# Altium schematic symbol library BaseGOST.SchLib: 25 symbols
Pins are listed as number, name and electrical type; pins without a type are passive.

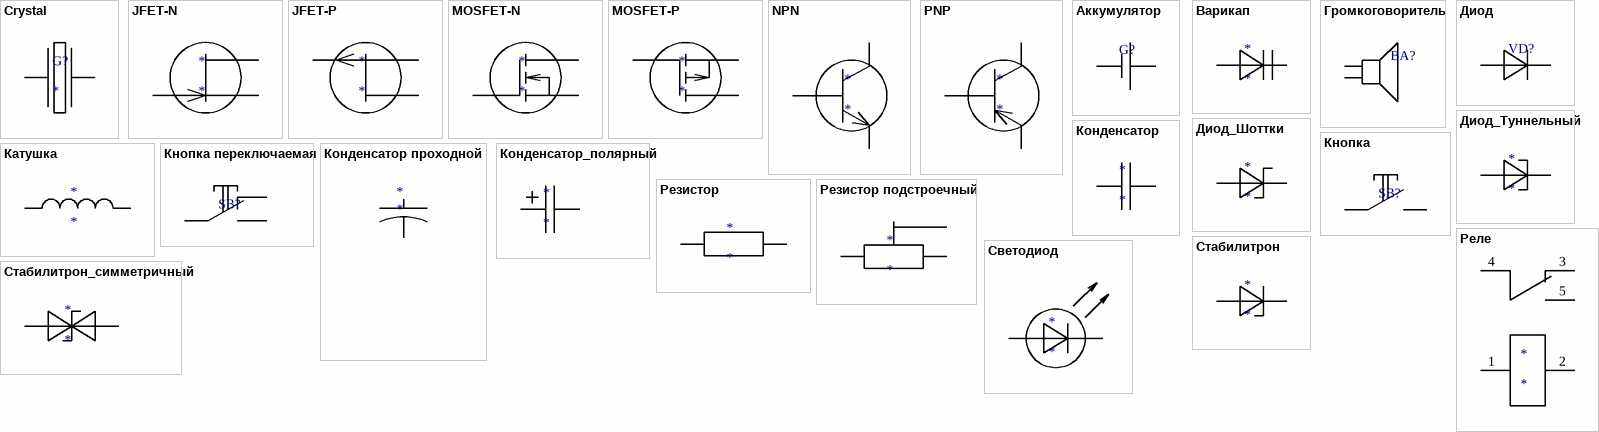
[diagram p0: symbols Crystal to Стабилитрон_симметричный]

## Crystal
designator G?
pins: 1, 2

## JFET-N
designator *
pins: D, G, S

## JFET-P
designator *
pins: D, G, S

## MOSFET-N
designator *
pins: D, G, S
1 alternate drawing of the same symbol

## MOSFET-P
designator *
pins: D, G, S
1 alternate drawing of the same symbol

## NPN
designator *
pins: B, C, E

## PNP
designator *
pins: B, C, E

## Аккумулятор
designator G?  (value not drawn)
pins: 1, 2

## Варикап
designator *
pins: 1, 2

## Громкоговоритель
designator BA?  (value not drawn)
pins: 1, 2

## Диод
designator VD?  (value not drawn)
pins: A, C

## Диод_Туннельный
designator *
pins: 1, 2

## Диод_Шоттки
designator *
pins: 1, 2

## Катушка
designator *
pins: 1, 2

## Кнопка
designator SB?  (value not drawn)
pins: 1, 2

## Кнопка переключаемая
designator SB?  (value not drawn)
pins: 1, 2, 3

## Конденсатор
designator *
pins: 1, 2

## Конденсатор проходной
designator *
pins: 1, 2, 3

## Конденсатор_полярный
designator *
pins: 1, 2

## Резистор
designator *
pins: 1, 2

## Резистор подстроечный
designator *
pins: 1, 2, 3

## Реле
designator *
pins: 1, 2, 3, 4, 5

## Светодиод
designator *
pins: 1, 2

## Стабилитрон
designator *
pins: 1, 2

## Стабилитрон_симметричный
designator *
pins: 1, 2